# Altium schematic symbol library CFR0W4J0102A50.SchLib: 1 symbol
Pins are listed as number, name and electrical type; pins without a type are passive.

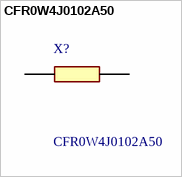
[diagram p0: symbol CFR0W4J0102A50]

## CFR0W4J0102A50
designator X?
Carbon Film Resistors 1KOhms +/-5% 1/4W Axial RoHS; Manufacturer_Name: UNI-ROYAL(Uniroyal Elec); Mouser Part Number: *; Mouser Price/Stock: *; Manufacturer_Part_Number: CFR0W4J0102A50; Datasheet Link: https://datasheet.lcsc.com/szlcsc/Uniroyal-Elec-CFR0W4J0102A50_C61293.pdf
footprint RESAD1625W54L665D240
pins: 1, 2